# Altium schematic symbol library USB_10X10.A1.SchLib: 1 symbol
Pins are listed as number, name and electrical type; pins without a type are passive.

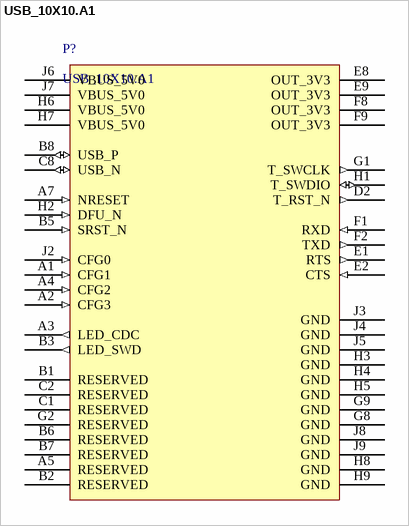
[diagram p0: symbol USB_10X10.A1]

## USB_10X10.A1
designator P?
pins: A1 CFG1 (in), A2 CFG3 (in), A3 LED_CDC (out), A4 CFG2 (in), A5 RESERVED, A7 NRESET (in), B1 RESERVED, B2 RESERVED, B3 LED_SWD (out), B5 SRST_N (in), B6 RESERVED, B7 RESERVED, B8 USB_P (io), C1 RESERVED, C2 RESERVED, C8 USB_N (io), D2 T_RST_N (out), E1 RTS (out), E2 CTS (in), E8 OUT_3V3 (power), E9 OUT_3V3 (power), F1 RXD (in), F2 TXD (out), F8 OUT_3V3 (power), F9 OUT_3V3 (power), G1 T_SWCLK (out), G2 RESERVED, G8 GND, G9 GND, H1 T_SWDIO (io), H2 DFU_N (in), H3 GND, H4 GND, H5 GND, H6 VBUS_5V0 (power), H7 VBUS_5V0 (power), H8 GND, H9 GND, J2 CFG0 (in), J3 GND, J4 GND, J5 GND, J6 VBUS_5V0 (power), J7 VBUS_5V0 (power), J8 GND, J9 GND